# EAGLE library part BMA180 (library ANIMAlib)
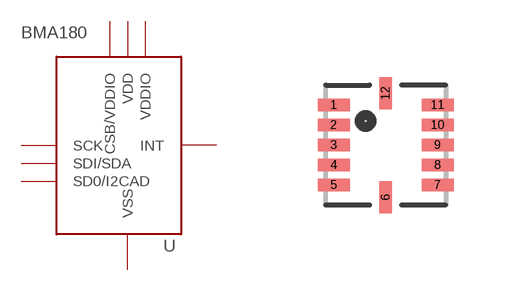
[diagram p23: symbol with the pads of LGA12_BOSCH; footprint LGA12_BOSCH]

Designator prefix U

## BMA180  [LGA12_BOSCH]
2  VDD  pas
3  VSS  pas
4  INT  pas
5  CSB/VDDIO  pas
7  SCK  pas
8  SD0/I2CAD  pas
9  SDI/SDA  pas
10  VDDIO  pas

## Footprint LGA12_BOSCH (pad centres in mm)
these are not strictly the size of the pads for the bma180. they are longer than specificed but are in the same position and have the same width. the actual spec calls for no part of the trace to stick out underneath which makes assembly even more annoying
smd 0.8 x 0.32: 1 -1.3,1; 2 -1.3,0.5; 3 -1.3,0; 4 -1.3,-0.5; 5 -1.3,-1; 7 1.3,-1; 8 1.3,-0.5; 9 1.3,0; 10 1.3,0.5; 11 1.3,1
smd 0.32 x 0.8: 6 0,-1.3; 12 0,1.3